# Altium schematic symbol library URB_MT-3WR3.SchLib: 1 symbol
Pins are listed as number, name and electrical type; pins without a type are passive.

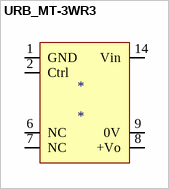
[diagram p0: symbol URB_MT-3WR3]

## URB_MT-3WR3
designator *
footprint URB_MT-3WR3
pins: 1 GND, 2 Ctrl, 6 NC, 7 NC, 8 +Vo, 9 0V, 14 Vin